# Altium footprint library PCB_library.PcbLib: 36 footprints (part 2 of 3)
Each footprint in its own frame and in the unit in brackets; x right, y up, seen from the top. Pads: shape width x height; smd on the part's side, far side on the other; paste and mask are expansions set on the pad; w line width, h text height; cw(c..) or ccw(c..) is an arc to the next point about the centre after c.
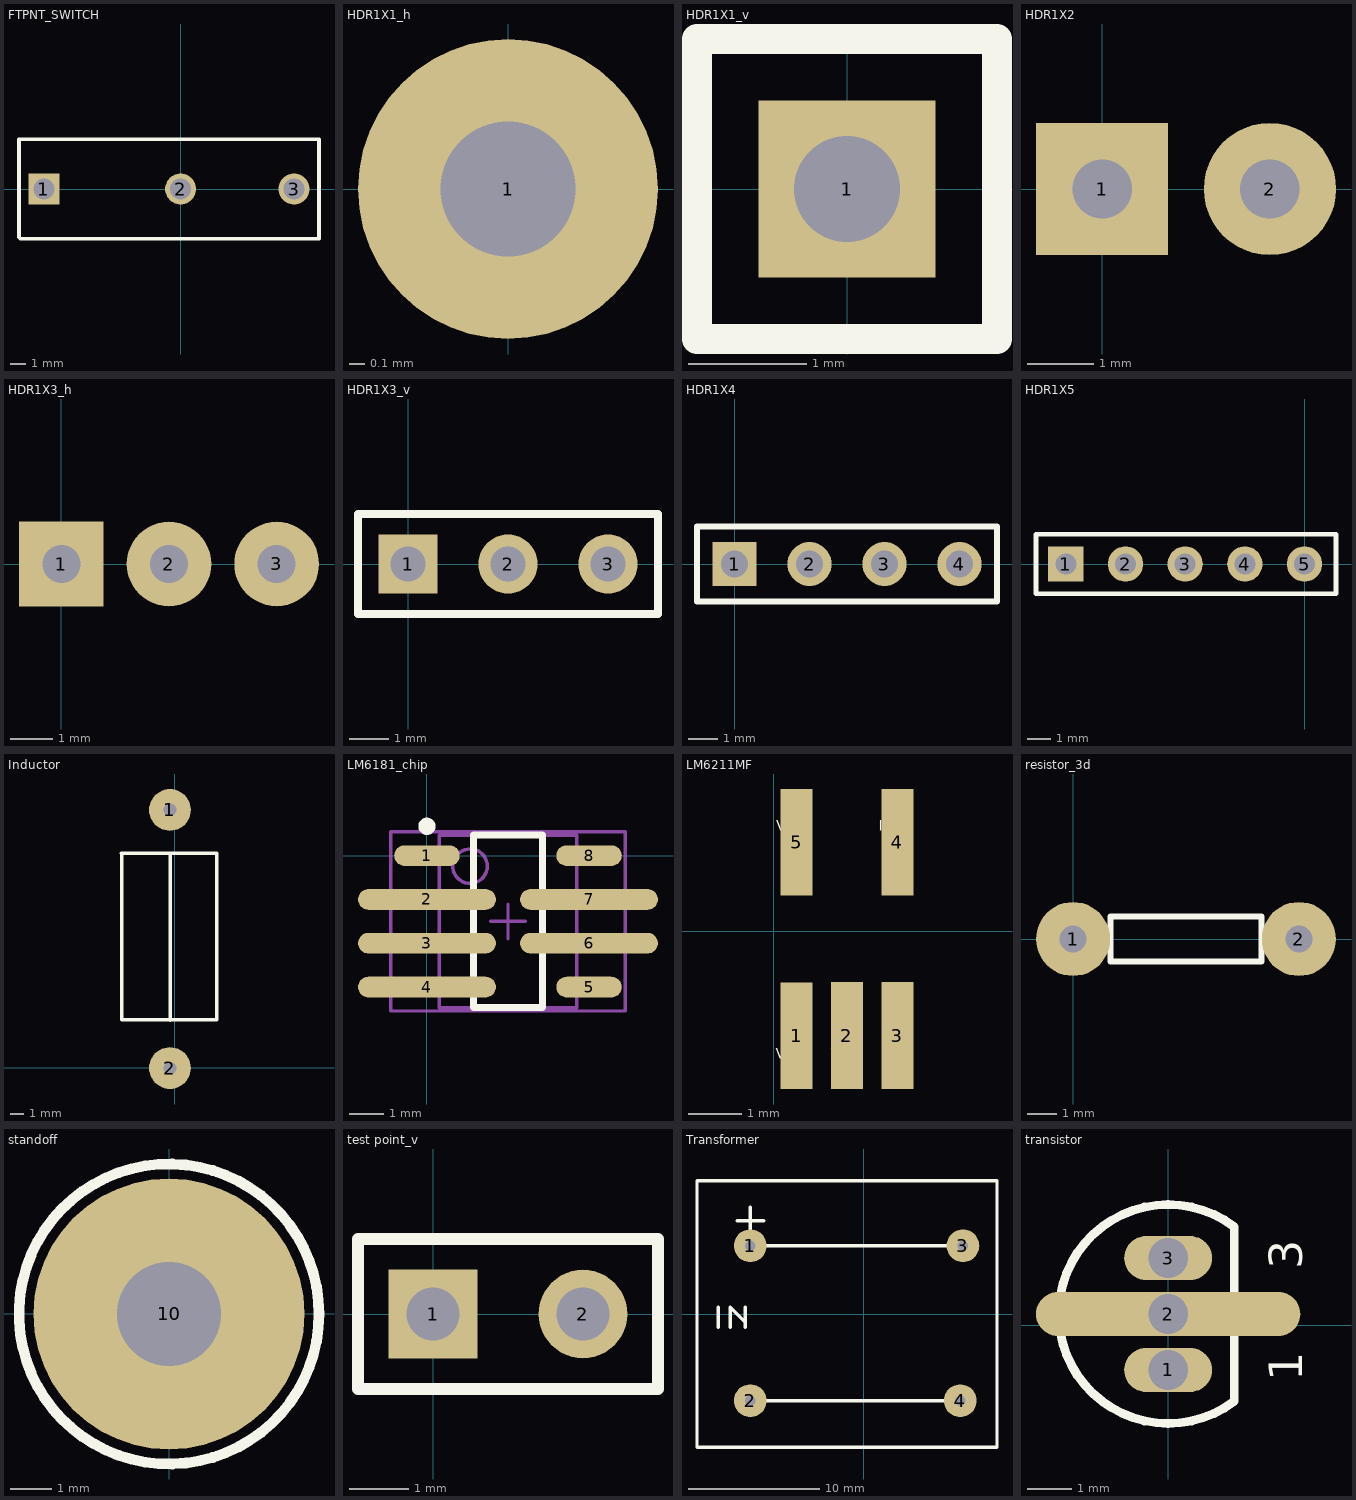
[diagram p1: the footprints below, top view; thin cyan lines are the x and y axes]

## FTPNT_SWITCH [mm]
pads (3):
  rect 2x2 hole 1.36: 1(-8.8,0)
  round 2 hole 1.36: 2(0,0) 3(7.3,0)
Top Overlay:
  lines w0.254: -10.4,-3.1 -10.3,-3.2 8.9,-3.2 8.9,3.2 -10.4,3.2 -10.4,0.2 -10.4,-3.1

## HDR1X1_h [mm] "horizontal"
height 4
pads (1):
  round 2 hole 0.9: 1(0,0)
3D body: height 2.45, standoff 1.55, extent -4.5,-0.39 -2.7,0.46
3D body: height 4, standoff 1, extent -2.7,-0.893 -0.898,0.9
3D body: height 2, standoff 0, extent -0.599,-0.595 0.599,0.6
3D body: height 2.45, standoff 1.55, extent -0.9,-0.365 -0.225,0.46

## HDR1X1_v [mm] "vertical"
height 10
pads (1):
  rect 1.5x1.5 hole 0.9: 1(0,0)
Top Overlay:
  lines w0.254: -1.27,-1.27 -1.27,1.27 1.27,1.27 1.27,-1.27 -1.27,-1.27
3D body: height 1, standoff -4, extent -0.545,-0.549 0.55,0.549

## HDR1X2 [mm] "horizontal"
pads (2):
  rect 2x2 hole 0.9: 1(0,0)
  round 2 hole 0.9: 2(2.54,0)
3D body: height 2.45, standoff 1.5, extent -0.391,-4.701 0.375,-0.127
3D body: height 2.55, standoff 1.45, extent 1.996,-0.548 3.09,0.548
3D body: height 2.55, standoff 1.45, extent -0.544,-0.548 0.55,0.548
3D body: height 2.45, standoff 1.5, extent 2.159,-4.699 2.925,-0.125
3D body: height 4, standoff 0.1, extent 1.651,-2.685 3.444,-0.883
3D body: height 4, standoff 0.1, extent -0.896,-2.679 0.897,-0.877
3D body: height 2, standoff 0, extent 1.995,-0.549 3.09,0.549
3D body: height 2, standoff 0, extent -0.545,-0.549 0.55,0.549

## HDR1X3_h [mm] "horizontal"
height 3
pads (3):
  rect 2x2 hole 0.9: 1(0,0)
  round 2 hole 0.9: 2(2.54,0) 3(5.08,0)
3D body: height 2, standoff 0, extent 4.535,-0.549 5.63,0.549
3D body: height 4, standoff 0.1, extent 4.191,-2.685 5.984,-0.883
3D body: height 2.45, standoff 1.5, extent 4.699,-4.699 5.465,-0.125
3D body: height 2.55, standoff 1.45, extent 4.536,-0.548 5.63,0.548
3D body: height 2.45, standoff 1.5, extent -0.391,-4.701 0.375,-0.127
3D body: height 2.55, standoff 1.45, extent 1.996,-0.548 3.09,0.548
3D body: height 2.55, standoff 1.45, extent -0.544,-0.548 0.55,0.548
3D body: height 2.45, standoff 1.5, extent 2.159,-4.699 2.925,-0.125
3D body: height 4, standoff 0.1, extent 1.651,-2.685 3.444,-0.883
3D body: height 4, standoff 0.1, extent -0.896,-2.679 0.897,-0.877
3D body: height 2, standoff 0, extent 1.995,-0.549 3.09,0.549
3D body: height 2, standoff 0, extent -0.545,-0.549 0.55,0.549

## HDR1X3_v [mm] "vertical bottom insert"
pads (3):
  rect 1.5x1.5 hole 0.9: 1(0,0)
  round 1.5 hole 0.9: 2(2.54,0) 3(5.08,0)
Top Overlay:
  lines w0.2: -1.27,-1.27 6.35,-1.27 6.35,1.27 -1.27,1.27 -1.27,-1.27
3D body: height 1, standoff -4, extent -0.545,-0.549 0.55,0.549
3D body: height 1, standoff -4, extent 1.995,-0.549 3.09,0.549
3D body: height 1, standoff -4, extent 4.535,-0.549 5.63,0.549

## HDR1X4 [mm] "Connector; Header; 4 Position"
pads (4):
  rect 1.5x1.5 hole 0.9: 1(0,0)
  round 1.5 hole 0.9: 2(2.54,0) 3(5.08,0) 4(7.62,0)
Top Overlay:
  lines w0.2: -1.27,-1.27 -1.27,1.27 8.89,1.27 8.89,-1.27 -1.27,-1.27
3D body: height 2, standoff 0, extent 7.12,-0.5 8.12,0.5
3D body: height 2, standoff 0, extent 4.58,-0.5 5.58,0.5
3D body: height 2, standoff 0, extent 2.04,-0.5 3.04,0.5
3D body: height 2, standoff 0, extent -0.5,-0.5 0.5,0.5

## HDR1X5 [mm]
pads (5):
  rect 1.5x1.5 hole 0.9: 1(-10.16,0)
  round 1.5 hole 0.9: 2(-7.62,0) 3(-5.08,0) 4(-2.54,0) 5(0,0)
Top Overlay:
  lines w0.2: -11.43,-1.27 -11.43,1.27 1.34,1.27 1.34,-1.27 -11.43,-1.27

## Inductor [mm] "100mH 29mA 278ohms"
pads (2):
  round 3 hole 0.9: 1(-0.346,18.484) 2(-0.346,-0.016)
Top Overlay:
  lines w0.254: -3.836,15.384 -0.336,15.384 ; -3.806,3.444 -3.806,5.797 -3.806,8.264 -3.806,15.384 ; -3.796,3.444 3.004,3.444 3.004,15.394 ; -0.336,3.424 -0.336,15.384 ; 3.004,15.384 -0.336,15.384
3D body: height 5.59, standoff 0.01, extent -3.206,3.402 2.372,15.342
3D body: height 3.2, standoff 0, extent -0.942,17.883 0.254,19.08
3D body: height 3.2, standoff 0, extent -0.942,-0.617 0.254,0.58
3D body: height 3.85, standoff 2.75, extent -0.892,14.481 0.204,18.481
3D body: height 4.5, standoff 2.5, extent -1.396,14.346 0.594,16.338
3D body: height 4.5, standoff 2.5, extent -1.396,2.406 0.594,4.397
3D body: height 3.83, standoff 2.67, extent -0.92,-0.596 0.234,0.559
3D body: height 3.85, standoff 2.75, extent -0.891,17.936 0.204,19.031
3D body: height 3.85, standoff 2.75, extent -0.897,-0.016 0.199,3.984

## LM6181_chip [mm] "3d model of chip"
height 10
pads (8):
  oval 1.9x0.6 smd: 1(0,0) 5(4.7,-3.81) 8(4.7,0)
  oval 4x0.6 smd: 2(0,-1.27) 3(0,-2.54) 4(0,-3.81) 6(4.7,-2.54) 7(4.7,-1.27)
Top Overlay:
  circle w0.25: c0,0.85 r0.125
  lines w0.2: 1.35,-4.405 1.35,0.595 3.35,0.595 3.35,-4.405 1.35,-4.405
Mechanical 13:
  circle w0.1: c1.25,-0.305 r0.5
  lines w0.1: 0.35,-4.405 0.35,0.595 4.35,0.595 4.35,-4.405 0.35,-4.405
Mechanical 15:
  lines w0.1: 1.85,-1.905 2.85,-1.905 ; 2.35,-2.405 2.35,-1.405 ; -1.05,-4.505 -1.05,0.695 5.75,0.695 5.75,-4.505 -1.05,-4.505
3D body: height 1.75, standoff 0, extent 0.35,-4.405 4.35,0.595

## LM6211MF [mm] "SM chip"
pads (5):
  rect 0.6x2 smd: 1(0.433,-1.96) 2(1.373,-1.958) 3(2.322,-1.958) 4(2.322,1.663) 5(0.43,1.662)
Top Overlay:
  text "V+" at 0.05,1.88 h0.2
  text "IN-" at 1.97,1.88 h0.2
  text "Vout" at 0.04,-2.39 h0.2
  text "V-" at 1.07,-2.4 h0.2
  text "IN+" at 2.04,-2.4 h0.2

## resistor_3d [mm] "3d through hole"
height 0.203
pads (2):
  round 2.5 hole 0.9: 1(0,0) 2(7.62,0)
Top Overlay:
  lines w0.2: 1.041,0 1.27,0 ; 6.579,0 6.35,0 ; 6.35,0 6.35,0.762 1.27,0.762 1.27,-0.762 6.35,-0.762 6.35,0
3D body: height 1.75, standoff 0.65, extent 0.006,-0.552 3.006,0.544
3D body: height 1.75, standoff 0.65, extent 4.62,-0.55 7.62,0.546
3D body: height 1.8, standoff 0.7, extent 7.08,-0.55 8.174,0.546
3D body: height 1.2, standoff 0, extent 7.074,-0.549 8.17,0.549
3D body: height 1.2, standoff 0, extent -0.539,-0.555 0.557,0.543
3D body: height 1.8, standoff 0.7, extent -0.538,-0.554 0.557,0.541
3D body: height 2.5, standoff 0.5, extent 1.27,-1.001 6.35,0.991

## standoff [mm] "3d 0.75 inch model"
height 6.35
pads (1):
  round 6.5 hole 2.5: 10(0,0)
Top Overlay:
  circle w0.254: c0,0 r3.6
3D body: height -0.1, standoff -6.45, extent -2.345,-2.331 2.345,2.35

## test point_v [mm] "vertical 3d model"
height 0.102
pads (2):
  rect 1.5x1.5 hole 0.9: 1(0,0)
  round 1.5 hole 0.9: 2(2.54,0)
Top Overlay:
  lines w0.2: -1.27,-1.27 -1.27,1.27 3.81,1.27 3.81,-1.27 -1.27,-1.27
3D body: height 3.7, standoff -1.3, extent 1.995,-0.549 3.09,0.549
3D body: height 3.7, standoff -1.3, extent -0.545,-0.549 0.55,0.549

## Transformer [mm]
pads (4):
  round 2.5 hole 0.8: 1(-8.636,5.196) 2(-8.636,-6.604) 3(7.564,5.196) 4(7.364,-6.604)
Top Overlay:
  lines w0.254: -11.074,-1.016 -11.074,0.508 ; -10.16,-1.016 -10.16,0.508 -9.017,-0.635 ; -9.652,7.112 -7.62,7.112 ; -9.017,-1.016 -9.017,-0.635 ; -9.017,0.533 -9.017,-0.635 ; -8.636,-6.604 7.364,-6.604 ; -8.636,5.196 7.564,5.196 ; -8.636,6.096 -8.636,8.128 ; -12.7,-10.16 10.16,-10.16 10.16,10.16 -12.7,10.16 -12.7,-10.16

## transistor [mm] "3d model"
height 8
pads (3):
  oval 2x1 hole 0.9: 1(0,-1.016) 3(0,1.524)
  oval 6x1 hole 0.9: 2(0,0.254)
Top Overlay:
  lines w0.2: 1.5,-1.726 cw(c0,0.254) 1.5,2.234 1.5,-1.726
  text "1" at 3.048,-1.27 h0.76
  text "3" at 3.048,1.27 h0.76
3D body: height 2.5, standoff 0, extent -0.595,-1.615 0.6,-0.417
3D body: height 2.5, standoff 0, extent -0.595,-0.345 0.6,0.853
3D body: height 2.5, standoff 0, extent -0.595,0.925 0.6,2.123
3D body: height 5, standoff 2, extent -2.613,-2.312 1.588,2.857